# Altium integrated library Altium_SMD_Resister.IntLib: 493 symbols (part 8 of 8)
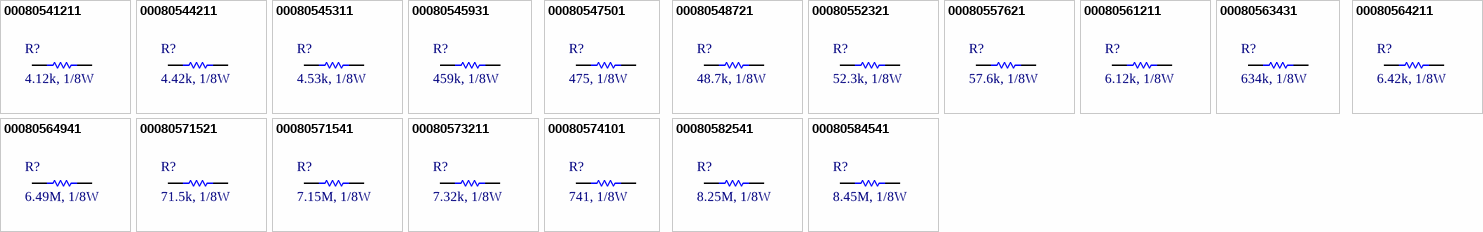
[diagram p19: symbols 00080541211 to 00080584541]

## 00080545931
designator R?, comment 459k, 1/8W
RES, 459k Ohm, size 0805, 1%; Resistance: 459 kOhms; Resistance Tolerance: +/-1%; Supply 1 Name: Mouser; Supply 2 Name: Digi-Key; Supply 2 SN: RMCF0805FT4K30DKR-ND; Supply 3 Name: Thegioiic; Size: 0805; Rated Power: 1/8W; Supply 1 SN: N/A; Supply 1 URL: N/A; Supply 2 URL: https://www.digikey.com/en/products/detail/stackpole-electronics-inc/RMCF0805FT4K30/1760198; Mounting Technology: SMT; Supply 3 SN: N/A; Supply 3 URL: N/A; Datasheet: N/A; Manufacture  Name: N/A; Manufacture  SN: N/A
footprint RESISTOR_0805 (Chip Resistor, 2-Leads, Body 2,00x1,20mm, IPC Medium Density)
pins: 1, 2

## 00080547501
designator R?, comment 475, 1/8W
RES, 475 Ohm, size 0805, 1%; Resistance: 475 Ohms; Resistance Tolerance: +/-1%; Supply 1 Name: Mouser; Supply 1 SN: 660-RK73G2ARTTD4750F; Supply 2 Name: Digi-Key; Supply 2 SN: 311-475CRDKR-ND; Supply 3 Name: Thegioiic; Size: 0805; Rated Power: 1/8W; Supply 1 URL: https://www.mouser.vn/ProductDetail/KOA-Speer/RK73G2ARTTD4750F?qs=sGAEpiMZZMtG0KNrPCHnjRpfexHZHoPICGbTAoMU%2F0TGfwzA89isyQ%3D%3D; Supply 2 URL: https://www.digikey.com/en/products/detail/yageo/RC0805FR-07475RL/727978; Mounting Technology: SMT; Supply 3 SN: N/A; Supply 3 URL: N/A; Datasheet: N/A; Manufacture  Name: N/A; Manufacture  SN: N/A
footprint RESISTOR_0805 (Chip Resistor, 2-Leads, Body 2,00x1,20mm, IPC Medium Density)
pins: 1, 2

## 00080548721
designator R?, comment 48.7k, 1/8W
RES, 48.7k Ohm, size 0805, 1%; Resistance: 48.7 kOhms; Resistance Tolerance: +/-1%; Supply 1 Name: Mouser; Supply 1 SN: 652-CR0805FX-4872ELF; Supply 2 Name: Digi-Key; Supply 2 SN: P48.7KCDKR-ND; Supply 3 Name: Thegioiic; Size: 0805; Rated Power: 1/8W; Supply 1 URL: https://www.mouser.vn/ProductDetail/Bourns/CR0805-FX-4872ELF?qs=sGAEpiMZZMtlubZbdhIBIL%252BKkaYz7rs3OXEDnL6C198%3D; Supply 2 URL: https://www.digikey.com/en/products/detail/panasonic-electronic-components/ERJ-6ENF4872V/111609; Mounting Technology: SMT; Supply 3 SN: N/A; Supply 3 URL: N/A; Datasheet: N/A; Manufacture  Name: N/A; Manufacture  SN: N/A
footprint RESISTOR_0805 (Chip Resistor, 2-Leads, Body 2,00x1,20mm, IPC Medium Density)
pins: 1, 2

## 00080552321
designator R?, comment 52.3k, 1/8W
RES, 52.3k Ohm, size 0805, 1%; Resistance: 52.3 kOhms; Resistance Tolerance: +/-1%; Supply 1 Name: Mouser; Supply 1 SN: 667-ERJ-6ENF5232V; Supply 2 Name: Digi-Key; Supply 2 SN: 311-52.3KCRDKR-ND; Supply 3 Name: Thegioiic; Size: 0805; Rated Power: 1/8W; Supply 1 URL: https://www.mouser.vn/ProductDetail/Panasonic/ERJ-6ENF5232V?qs=sGAEpiMZZMtlubZbdhIBIGigBIB3A6R9zBn5%252BDYL6RA%3D; Supply 2 URL: https://www.digikey.com/en/products/detail/yageo/RC0805FR-0752K3L/728021; Mounting Technology: SMT; Supply 3 SN: N/A; Supply 3 URL: N/A; Datasheet: N/A; Manufacture  Name: N/A; Manufacture  SN: N/A
footprint RESISTOR_0805 (Chip Resistor, 2-Leads, Body 2,00x1,20mm, IPC Medium Density)
pins: 1, 2

## 00080557621
designator R?, comment 57.6k, 1/8W
RES, 57.6k Ohm, size 0805, 1%; Resistance: 57.6 kOhms; Resistance Tolerance: +/-1%; Supply 1 Name: Mouser; Supply 1 SN: 667-ERJ-6ENF5762V; Supply 2 Name: Digi-Key; Supply 2 SN: 311-57.6KCRDKR-ND; Supply 3 Name: Thegioiic; Size: 0805; Rated Power: 1/8W; Supply 1 URL: https://www.mouser.vn/ProductDetail/Panasonic/ERJ-6ENF5762V?qs=sGAEpiMZZMtlubZbdhIBIGigBIB3A6R9NhH0M6W9sy4%3D; Supply 2 URL: https://www.digikey.com/en/products/detail/yageo/RC0805FR-0757K6L/728041; Mounting Technology: SMT; Supply 3 SN: N/A; Supply 3 URL: N/A; Datasheet: N/A; Manufacture  Name: N/A; Manufacture  SN: N/A
footprint RESISTOR_0805 (Chip Resistor, 2-Leads, Body 2,00x1,20mm, IPC Medium Density)
pins: 1, 2

## 00080561211
designator R?, comment 6.12k, 1/8W
RES, 6.12k Ohm, size 0805, 1%; Resistance: 6.12 kOhms; Resistance Tolerance: +/-1%; Supply 1 Name: Mouser; Supply 2 Name: Digi-Key; Supply 2 SN: 2019-RN73R2ATTD6121F25TR-ND; Supply 3 Name: Thegioiic; Size: 0805; Rated Power: 1/8W; Supply 1 SN: N/A; Supply 1 URL: N/A; Supply 2 URL: https://www.digikey.com/en/products/detail/koa-speer-electronics-inc/RN73R2ATTD6121F25/10035242; Mounting Technology: SMT; Supply 3 SN: N/A; Supply 3 URL: N/A; Datasheet: N/A; Manufacture  Name: N/A; Manufacture  SN: N/A
footprint RESISTOR_0805 (Chip Resistor, 2-Leads, Body 2,00x1,20mm, IPC Medium Density)
pins: 1, 2

## 00080563431
designator R?, comment 634k, 1/8W
RES, 634k Ohm, size 0805, 1%; Resistance: 634 kOhms; Resistance Tolerance: +/-1%; Supply 1 Name: Mouser; Supply 1 SN: 603-RT0805FRE07634KL; Supply 2 Name: Digi-Key; Supply 2 SN: 311-634KCRTR-ND; Supply 3 Name: Thegioiic; Size: 0805; Rated Power: 1/8W; Supply 1 URL: https://www.mouser.vn/ProductDetail/YAGEO/RT0805FRE07634KL?qs=4CyHz7GXqSgfSiXMWNQNIg%3D%3D; Supply 2 URL: https://www.digikey.com/en/products/detail/yageo/RC0805FR-07634KL/728088; Mounting Technology: SMT; Supply 3 SN: N/A; Supply 3 URL: N/A; Datasheet: N/A; Manufacture  Name: N/A; Manufacture  SN: N/A
footprint RESISTOR_0805 (Chip Resistor, 2-Leads, Body 2,00x1,20mm, IPC Medium Density)
pins: 1, 2

## 00080564211
designator R?, comment 6.42k, 1/8W
RES, 6.42k Ohm, size 0805, 1%; Resistance: 6.42 kOhms; Resistance Tolerance: +/-1%; Supply 1 Name: Mouser; Supply 2 Name: Digi-Key; Supply 2 SN: 2019-RN73R2ATTD6421F100TR-ND; Supply 3 Name: Thegioiic; Size: 0805; Rated Power: 1/8W; Supply 1 SN: N/A; Supply 1 URL: N/A; Supply 2 URL: https://www.digikey.com/en/products/detail/koa-speer-electronics-inc/RN73R2ATTD6421F100/10035641; Mounting Technology: SMT; Supply 3 SN: N/A; Supply 3 URL: N/A; Datasheet: N/A; Manufacture  Name: N/A; Manufacture  SN: N/A
footprint RESISTOR_0805 (Chip Resistor, 2-Leads, Body 2,00x1,20mm, IPC Medium Density)
pins: 1, 2

## 00080564941
designator R?, comment 6.49M, 1/8W
RES, 6.49M Ohm, size 0805, 1%; Resistance: 6.49 MOhms; Resistance Tolerance: +/-1%; Supply 1 Name: Mouser; Supply 2 Name: Digi-Key; Supply 2 SN: 311-6.49MCRTR-ND; Supply 3 Name: Thegioiic; Size: 0805; Rated Power: 1/8W; Supply 1 SN: N/A; Supply 1 URL: N/A; Supply 2 URL: https://www.digikey.com/en/products/detail/yageo/RC0805FR-076M49L/731008; Mounting Technology: SMT; Supply 3 SN: N/A; Supply 3 URL: N/A; Datasheet: N/A; Manufacture  Name: N/A; Manufacture  SN: N/A
footprint RESISTOR_0805 (Chip Resistor, 2-Leads, Body 2,00x1,20mm, IPC Medium Density)
pins: 1, 2

## 00080571521
designator R?, comment 71.5k, 1/8W
RES, 71.5k Ohm, size 0805, 1%; Resistance: 71.5 kOhms; Resistance Tolerance: +/-1%; Supply 1 Name: Mouser; Supply 1 SN: 603-RT0805FRE0771K5L; Supply 2 Name: Digi-Key; Supply 2 SN: 311-71.5KCRTR-ND; Supply 3 Name: Thegioiic; Size: 0805; Rated Power: 1/8W; Supply 1 URL: https://www.mouser.vn/ProductDetail/YAGEO/RT0805FRE0771K5L?qs=yNCrj0CQcyJ2X5%252BJTRHZxw%3D%3D; Supply 2 URL: https://www.digikey.com/en/products/detail/yageo/RC0805FR-0771K5L/728125; Mounting Technology: SMT; Supply 3 SN: N/A; Supply 3 URL: N/A; Datasheet: N/A; Manufacture  Name: N/A; Manufacture  SN: N/A
footprint RESISTOR_0805 (Chip Resistor, 2-Leads, Body 2,00x1,20mm, IPC Medium Density)
pins: 1, 2

## 00080571541
designator R?, comment 7.15M, 1/8W
RES, 7.15M Ohm, size 0805, 1%; Resistance: 7.15 MOhms; Resistance Tolerance: +/-1%; Supply 1 Name: Mouser; Supply 2 Name: Digi-Key; Supply 2 SN: 311-7.15MCRTR-ND; Supply 3 Name: Thegioiic; Size: 0805; Rated Power: 1/8W; Supply 1 SN: N/A; Supply 1 URL: N/A; Supply 2 URL: https://www.digikey.com/en/products/detail/yageo/RC0805FR-077M15L/728111; Mounting Technology: SMT; Supply 3 SN: N/A; Supply 3 URL: N/A; Datasheet: N/A; Manufacture  Name: N/A; Manufacture  SN: N/A
footprint RESISTOR_0805 (Chip Resistor, 2-Leads, Body 2,00x1,20mm, IPC Medium Density)
pins: 1, 2

## 00080573211
designator R?, comment 7.32k, 1/8W
RES, 7.32k Ohm, size 0805, 1%; Resistance: 7.32 kOhms; Resistance Tolerance: +/-1%; Supply 1 Name: Mouser; Supply 1 SN: 603-RT0805FRE077K32L; Supply 2 Name: Digi-Key; Supply 2 SN: 311-7.32KCRTR-ND; Supply 3 Name: Thegioiic; Size: 0805; Rated Power: 1/8W; Supply 1 URL: https://www.mouser.vn/ProductDetail/YAGEO/RT0805FRE077K32L?qs=yNCrj0CQcyL5VeJfozhHUw%3D%3D; Supply 2 URL: https://www.digikey.com/en/products/detail/yageo/RC0805FR-077K32L/728113; Mounting Technology: SMT; Supply 3 SN: N/A; Supply 3 URL: N/A; Datasheet: N/A; Manufacture  Name: N/A; Manufacture  SN: N/A
footprint RESISTOR_0805 (Chip Resistor, 2-Leads, Body 2,00x1,20mm, IPC Medium Density)
pins: 1, 2

## 00080574101
designator R?, comment 741, 1/8W
RES, 741 Ohm, size 0805, 1%; Resistance: 741 Ohms; Resistance Tolerance: +/-1%; Supply 1 Name: Mouser; Supply 2 Name: Digi-Key; Supply 2 SN: 2019-RN73R2ATTD7410F100TR-ND; Supply 3 Name: Thegioiic; Size: 0805; Rated Power: 1/8W; Supply 1 SN: N/A; Supply 1 URL: N/A; Supply 2 URL: https://www.digikey.com/en/products/detail/koa-speer-electronics-inc/RN73R2ATTD7410F100/10036662; Mounting Technology: SMT; Supply 3 SN: N/A; Supply 3 URL: N/A; Datasheet: N/A; Manufacture  Name: N/A; Manufacture  SN: N/A
footprint RESISTOR_0805 (Chip Resistor, 2-Leads, Body 2,00x1,20mm, IPC Medium Density)
pins: 1, 2

## 00080582541
designator R?, comment 8.25M, 1/8W
RES, 8.25M Ohm, size 0805, 1%; Resistance: 8.25 MOhms; Resistance Tolerance: +/-1%; Supply 1 Name: Mouser; Supply 2 Name: Digi-Key; Supply 2 SN: 311-8.25MCRTR-ND; Supply 3 Name: Thegioiic; Size: 0805; Rated Power: 1/8W; Supply 1 SN: N/A; Supply 1 URL: N/A; Supply 2 URL: https://www.digikey.com/en/products/detail/yageo/RC0805FR-078M25L/728150; Mounting Technology: SMT; Supply 3 SN: N/A; Supply 3 URL: N/A; Datasheet: N/A; Manufacture  Name: N/A; Manufacture  SN: N/A
footprint RESISTOR_0805 (Chip Resistor, 2-Leads, Body 2,00x1,20mm, IPC Medium Density)
pins: 1, 2

## 00080584541
designator R?, comment 8.45M, 1/8W
RES, 8.45M Ohm, size 0805, 1%; Resistance: 8.45 MOhms; Resistance Tolerance: +/-1%; Supply 1 Name: Mouser; Supply 2 Name: Digi-Key; Supply 2 SN: 311-8.45MCRTR-ND; Supply 3 Name: Thegioiic; Size: 0805; Rated Power: 1/8W; Supply 1 SN: N/A; Supply 1 URL: N/A; Supply 2 URL: https://www.digikey.com/en/products/detail/yageo/RC0805FR-078M45L/728153; Mounting Technology: SMT; Supply 3 SN: N/A; Supply 3 URL: N/A; Datasheet: N/A; Manufacture  Name: N/A; Manufacture  SN: N/A
footprint RESISTOR_0805 (Chip Resistor, 2-Leads, Body 2,00x1,20mm, IPC Medium Density)
pins: 1, 2